# Altium footprint library Flow_Pump1.PcbLib: 66 footprints (part 5 of 5)
Each footprint in its own frame and in the unit in brackets; x right, y up, seen from the top. Pads: shape width x height; smd on the part's side, far side on the other; paste and mask are expansions set on the pad; w line width, h text height; cw(c..) or ccw(c..) is an arc to the next point about the centre after c.
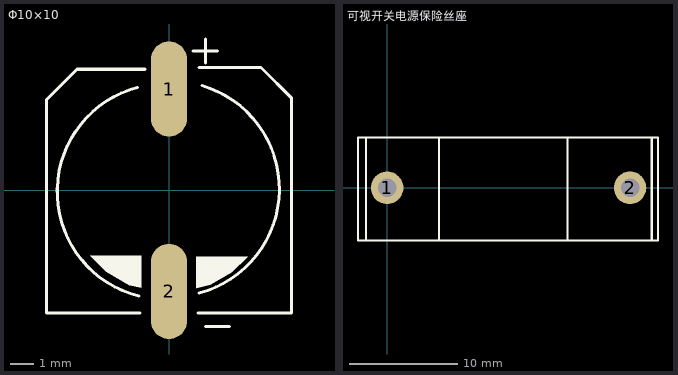
[diagram p4: the footprints below, top view; thin cyan lines are the x and y axes]

## Φ10×10 [mm]
height 0.75
pads (2):
  oval 1.524x4 smd: 1(0,4.25) 2(0,-4.25)
Top Overlay:
  region: -1.664,-4 -2.235,-3.429 -1.829,-3.429 -1.156,-4.102
  region: -2.642,-3.429 -2.235,-3.429 -1.664,-4
  region: -2.235,-3.429 -2.642,-3.429 -3.315,-2.756
  region: -1.156,-4.102 -2.502,-2.756 -3.315,-2.756
  region: -1.156,-2.756 -1.156,-4.102 -2.502,-2.756
  region: 1.727,-3.962 2.235,-3.454 1.803,-3.454 1.143,-4.115
  region: 2.642,-3.454 2.235,-3.454 1.727,-3.962
  region: 3.302,-2.794 2.642,-3.454 2.222,-3.454
  region: 1.143,-4.115 2.464,-2.794 3.302,-2.794
  region: 1.143,-2.794 1.143,-4.115 2.464,-2.794
  lines w0.127: -5.15,3.81 -5.15,-5.15 -1.213,-5.15 ; -5.137,3.81 -3.867,5.08 -1.016,5.08 ; -1.33,4.314 ccw(c-0.173,-0.058) -1.27,-4.445 ; 1.016,5.842 2.032,5.842 ; 1.213,-5.15 5.15,-5.15 5.15,3.867 3.867,5.15 1.27,5.15 ; 1.27,-4.318 ccw(c0.113,0.054) 1.389,4.392 ; 1.524,-5.715 2.54,-5.715 ; 1.524,5.334 1.524,6.35

## 可视开关电源保险丝座 [mm]
height 1.55
pads (2):
  round 3 hole 1.7: 1(0,0) 2(22.4,0)
Top Overlay:
  lines w0.2: -1.947,-4.863 -1.947,4.641 ; 4.784,-4.842 4.784,4.62 ; 16.637,-4.842 16.637,4.62 ; 24.405,-4.8 24.405,4.641 ; -2.688,-4.863 24.977,-4.863 24.977,4.641 -2.688,4.641 -2.688,-4.863